# Altium schematic symbol library NANOFIT_2x4.SchLib: 1 symbol
Pins are listed as number, name and electrical type; pins without a type are passive.

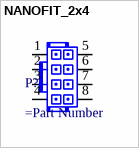
[diagram p0: symbol NANOFIT_2x4]

## NANOFIT_2x4
designator P?
=Description
pins: 1, 2, 3, 4, 5, 6, 7, 8